# Altium integrated library Atmel Memory EEPROM.IntLib: 165 symbols (part 3 of 5)
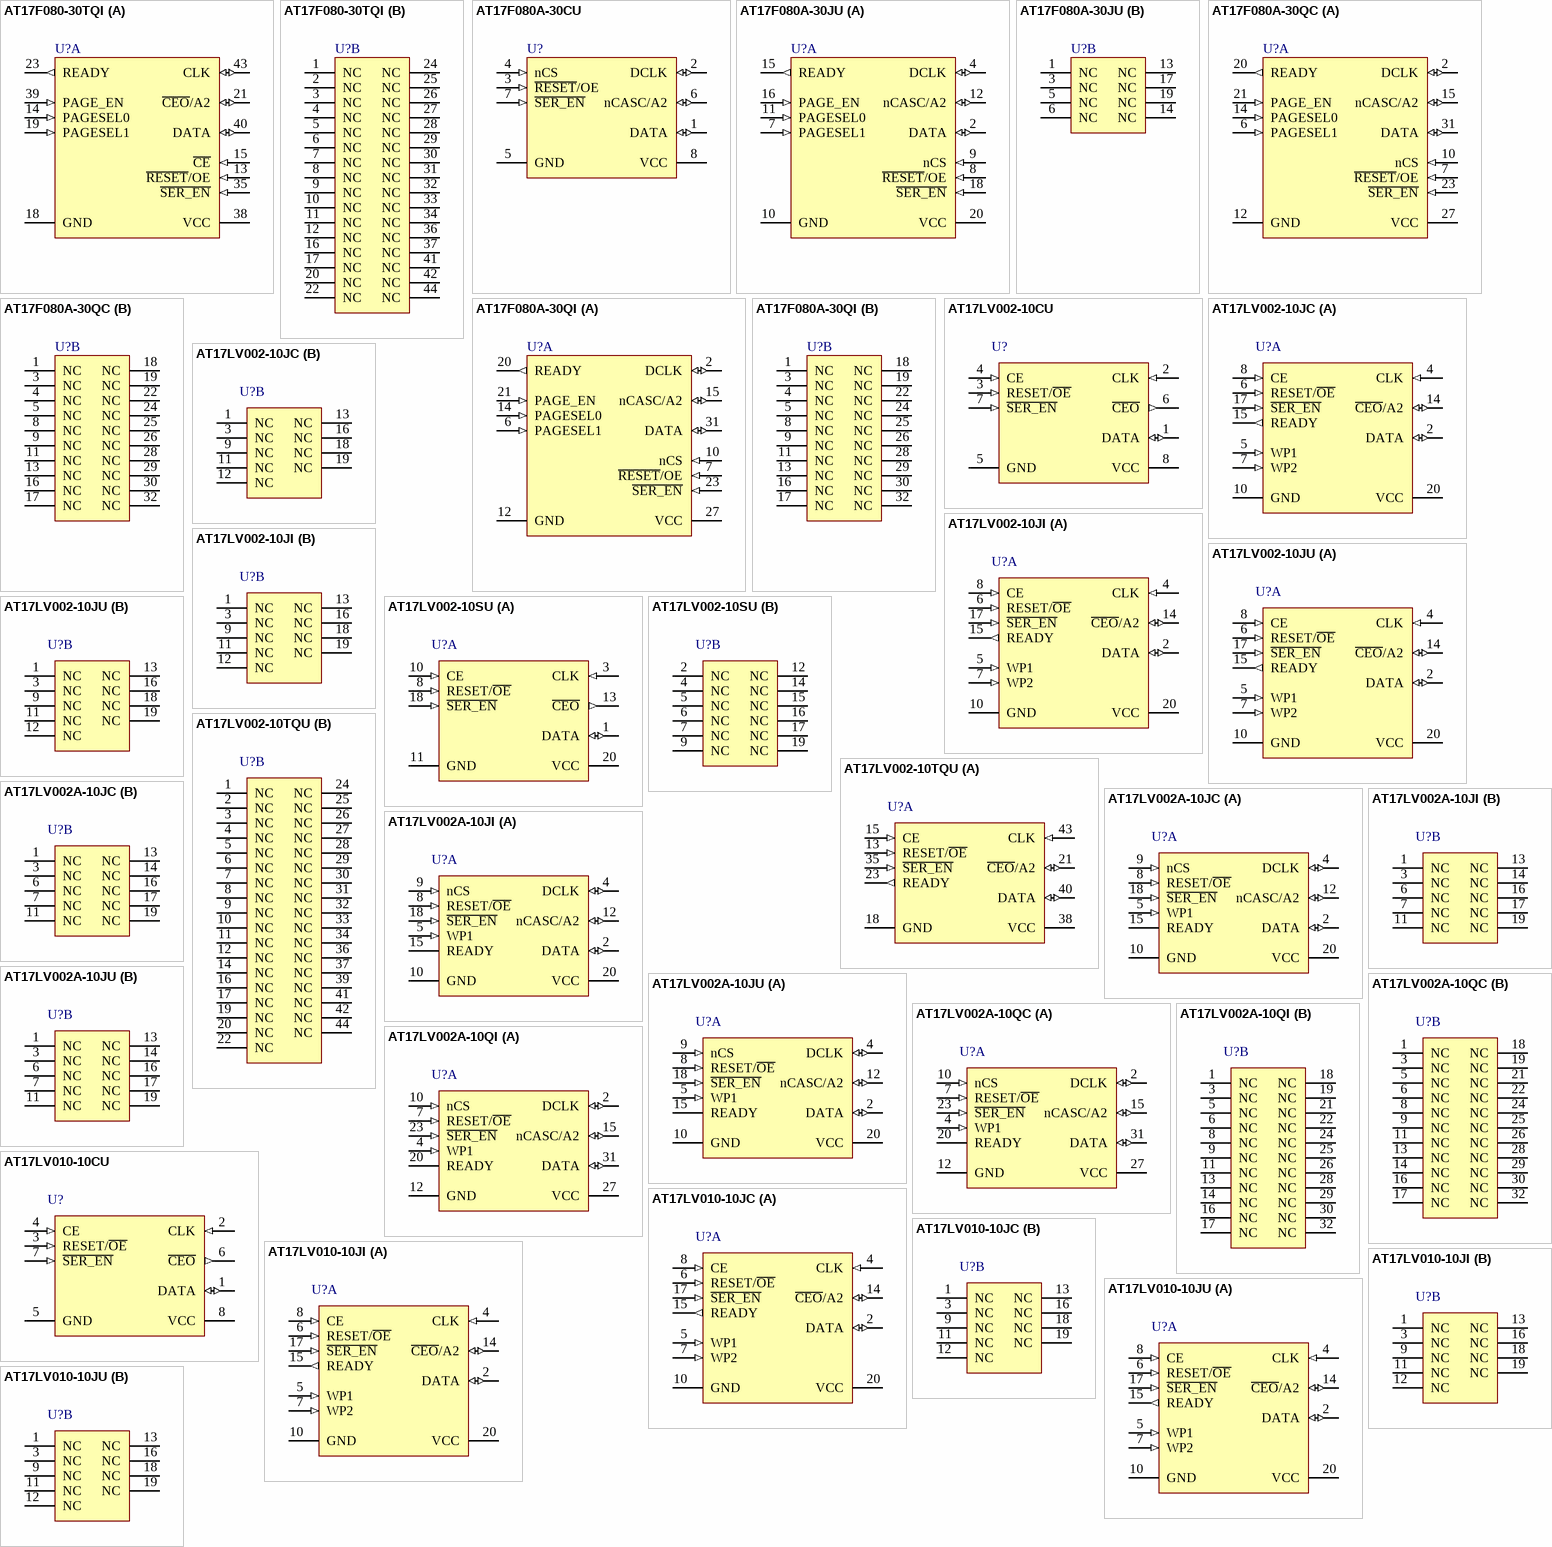
[diagram p10: symbols AT17F080-30TQI to AT17LV010-10JU]

## AT17LV010-10CU
designator U?
FPGA Configuration EEPROM Memory, 1-MBit Memory, 8-Pin LAP, Industrial Grade (-40°C to 85°C), Pb-Free; Published: 20-Sep-2010; DatasheetVersion: revI, Feb-2008; PackageVersion: revD, Feb-2008; PackageReference: 8CN4; Publisher: Altium Limited; PackageDescription: 8-Lead 6 x 6 x 1.04mm Body, 1.27mm Pitch Leadless Array Package (LAP); Supplier 1: Digi-Key; Supplier Part Number 1: AT17LV010-10CU-ND; Supplier 2: Mouser; Supplier Part Number 2: 556-AT17LV01010CU; ComponentLink1Description: Manufacturer Link; ComponentLink1URL: http://www.atmel.com/products/Config; ComponentLink2Description: AT17LV010 Datasheet; ComponentLink2URL: http://www.atmel.com/dyn/resources/prod_documents/doc2321.pdf; ComponentLink3Description: Atmel.com Home; ComponentLink3URL: http://www.atmel.com
footprint 8CN4 (SON, 8-Leads, Body 6x6 mm, Pitch 1.27mm)
pins: 1 DATA (io), 2 CLK (in), 3 RESET/~{OE} (in), 4 CE (in), 5 GND (power), 6 ~{CEO} (out), 7 ~{SER_EN} (in), 8 VCC (power)

## AT17LV010-10JC
designator U?
FPGA Configuration EEPROM Memory, 1-MBit Memory, 20-Pin PLCC, Commercial Grade (0°C to 70°C); Published: 17-Jul-2002; LatestRevisionDate: 13-Apr-2006; LatestRevisionNote: IPC-7351 Footprint Added.; DatasheetVersion: revI, Feb-2008; PackageVersion: Aug-1999; PackageReference: 20J; Publisher: Altium Limited; PackageDescription: 20-Pin Leaded Chip Carrier 1.27 mm Pitch; Supplier 1: Digi-Key; Supplier Part Number 1: AT17LV010-10JC-ND; Supplier 2: Mouser; Supplier Part Number 2: 556-AT17LV01010JC; Code_JEDEC: MS-018-AA; Code_IPC: PLCC-20; ComponentLink1Description: Manufacturer Link; ComponentLink1URL: http://www.atmel.com/products/Config; ComponentLink2Description: AT17LV010 Datasheet; ComponentLink2URL: http://www.atmel.com/dyn/resources/prod_documents/doc2321.pdf; ComponentLink3Description: Atmel.com Home; ComponentLink3URL: http://www.atmel.com
footprint 20J_N (Leaded Chip Carrier, 20-Leads, Body 9x9mm, Pitch 1.27mm, IPC Medium Density)
footprint 20J_L (Leaded Chip Carrier, 20-Leads, Body 9x9mm, Pitch 1.27mm, IPC High Density)
footprint 20J_M (Leaded Chip Carrier, 20-Leads, Body 9x9mm, Pitch 1.27mm, IPC Low Density)
part A pins: 2 DATA (io), 4 CLK (in), 5 WP1 (in), 6 RESET/~{OE} (in), 7 WP2 (in), 8 CE (in), 10 GND (power), 14 ~{CEO}/A2 (io), 15 READY (out), 17 ~{SER_EN} (in), 20 VCC (power)
part B pins: 1 NC, 3 NC, 9 NC, 11 NC, 12 NC, 13 NC, 16 NC, 18 NC, 19 NC

## AT17LV010-10JI
designator U?
FPGA Configuration EEPROM Memory, 1-MBit Memory, 20-Pin PLCC, Industrial Grade (-40°C to 85°C); Published: 17-Jul-2002; LatestRevisionDate: 13-Apr-2006; LatestRevisionNote: IPC-7351 Footprint Added.; DatasheetVersion: revI, Feb-2008; PackageVersion: Aug-1999; PackageReference: 20J; Publisher: Altium Limited; PackageDescription: 20-Pin Leaded Chip Carrier 1.27 mm Pitch; Supplier 1: Digi-Key; Supplier Part Number 1: AT17LV010-10JI-ND; Supplier 2: Mouser; Supplier Part Number 2: 556-AT17LV010-10JI; Code_JEDEC: MS-018-AA; Code_IPC: PLCC-20; ComponentLink1Description: Manufacturer Link; ComponentLink1URL: http://www.atmel.com/products/Config; ComponentLink2Description: AT17LV010 Datasheet; ComponentLink2URL: http://www.atmel.com/dyn/resources/prod_documents/doc2321.pdf; ComponentLink3Description: Atmel.com Home; ComponentLink3URL: http://www.atmel.com
footprint 20J_N (Leaded Chip Carrier, 20-Leads, Body 9x9mm, Pitch 1.27mm, IPC Medium Density)
footprint 20J_L (Leaded Chip Carrier, 20-Leads, Body 9x9mm, Pitch 1.27mm, IPC High Density)
footprint 20J_M (Leaded Chip Carrier, 20-Leads, Body 9x9mm, Pitch 1.27mm, IPC Low Density)
part A pins: 2 DATA (io), 4 CLK (in), 5 WP1 (in), 6 RESET/~{OE} (in), 7 WP2 (in), 8 CE (in), 10 GND (power), 14 ~{CEO}/A2 (io), 15 READY (out), 17 ~{SER_EN} (in), 20 VCC (power)
part B pins: 1 NC, 3 NC, 9 NC, 11 NC, 12 NC, 13 NC, 16 NC, 18 NC, 19 NC

## AT17LV010-10JU
designator U?
FPGA Configuration EEPROM Memory, 1-MBit Memory, 20-Pin PLCC, Industrial Grade (-40°C to 85°C), Pb-Free; Published: 20-Sep-2010; DatasheetVersion: revI, Feb-2008; PackageVersion: Aug-1999; PackageReference: 20J; Publisher: Altium Limited; PackageDescription: 20-Pin Leaded Chip Carrier 1.27 mm Pitch; Supplier 1: Digi-Key; Supplier Part Number 1: AT17LV010-10JU-ND; Supplier 2: Mouser; Supplier Part Number 2: 556-AT17LV01010JU; Code_JEDEC: MS-018-AA; Code_IPC: PLCC-20; ComponentLink1Description: Manufacturer Link; ComponentLink1URL: http://www.atmel.com/products/Config; ComponentLink2Description: AT17LV010 Datasheet; ComponentLink2URL: http://www.atmel.com/dyn/resources/prod_documents/doc2321.pdf; ComponentLink3Description: Atmel.com Home; ComponentLink3URL: http://www.atmel.com
footprint 20J_N (Leaded Chip Carrier, 20-Leads, Body 9x9mm, Pitch 1.27mm, IPC Medium Density)
footprint 20J_L (Leaded Chip Carrier, 20-Leads, Body 9x9mm, Pitch 1.27mm, IPC High Density)
footprint 20J_M (Leaded Chip Carrier, 20-Leads, Body 9x9mm, Pitch 1.27mm, IPC Low Density)
part A pins: 2 DATA (io), 4 CLK (in), 5 WP1 (in), 6 RESET/~{OE} (in), 7 WP2 (in), 8 CE (in), 10 GND (power), 14 ~{CEO}/A2 (io), 15 READY (out), 17 ~{SER_EN} (in), 20 VCC (power)
part B pins: 1 NC, 3 NC, 9 NC, 11 NC, 12 NC, 13 NC, 16 NC, 18 NC, 19 NC

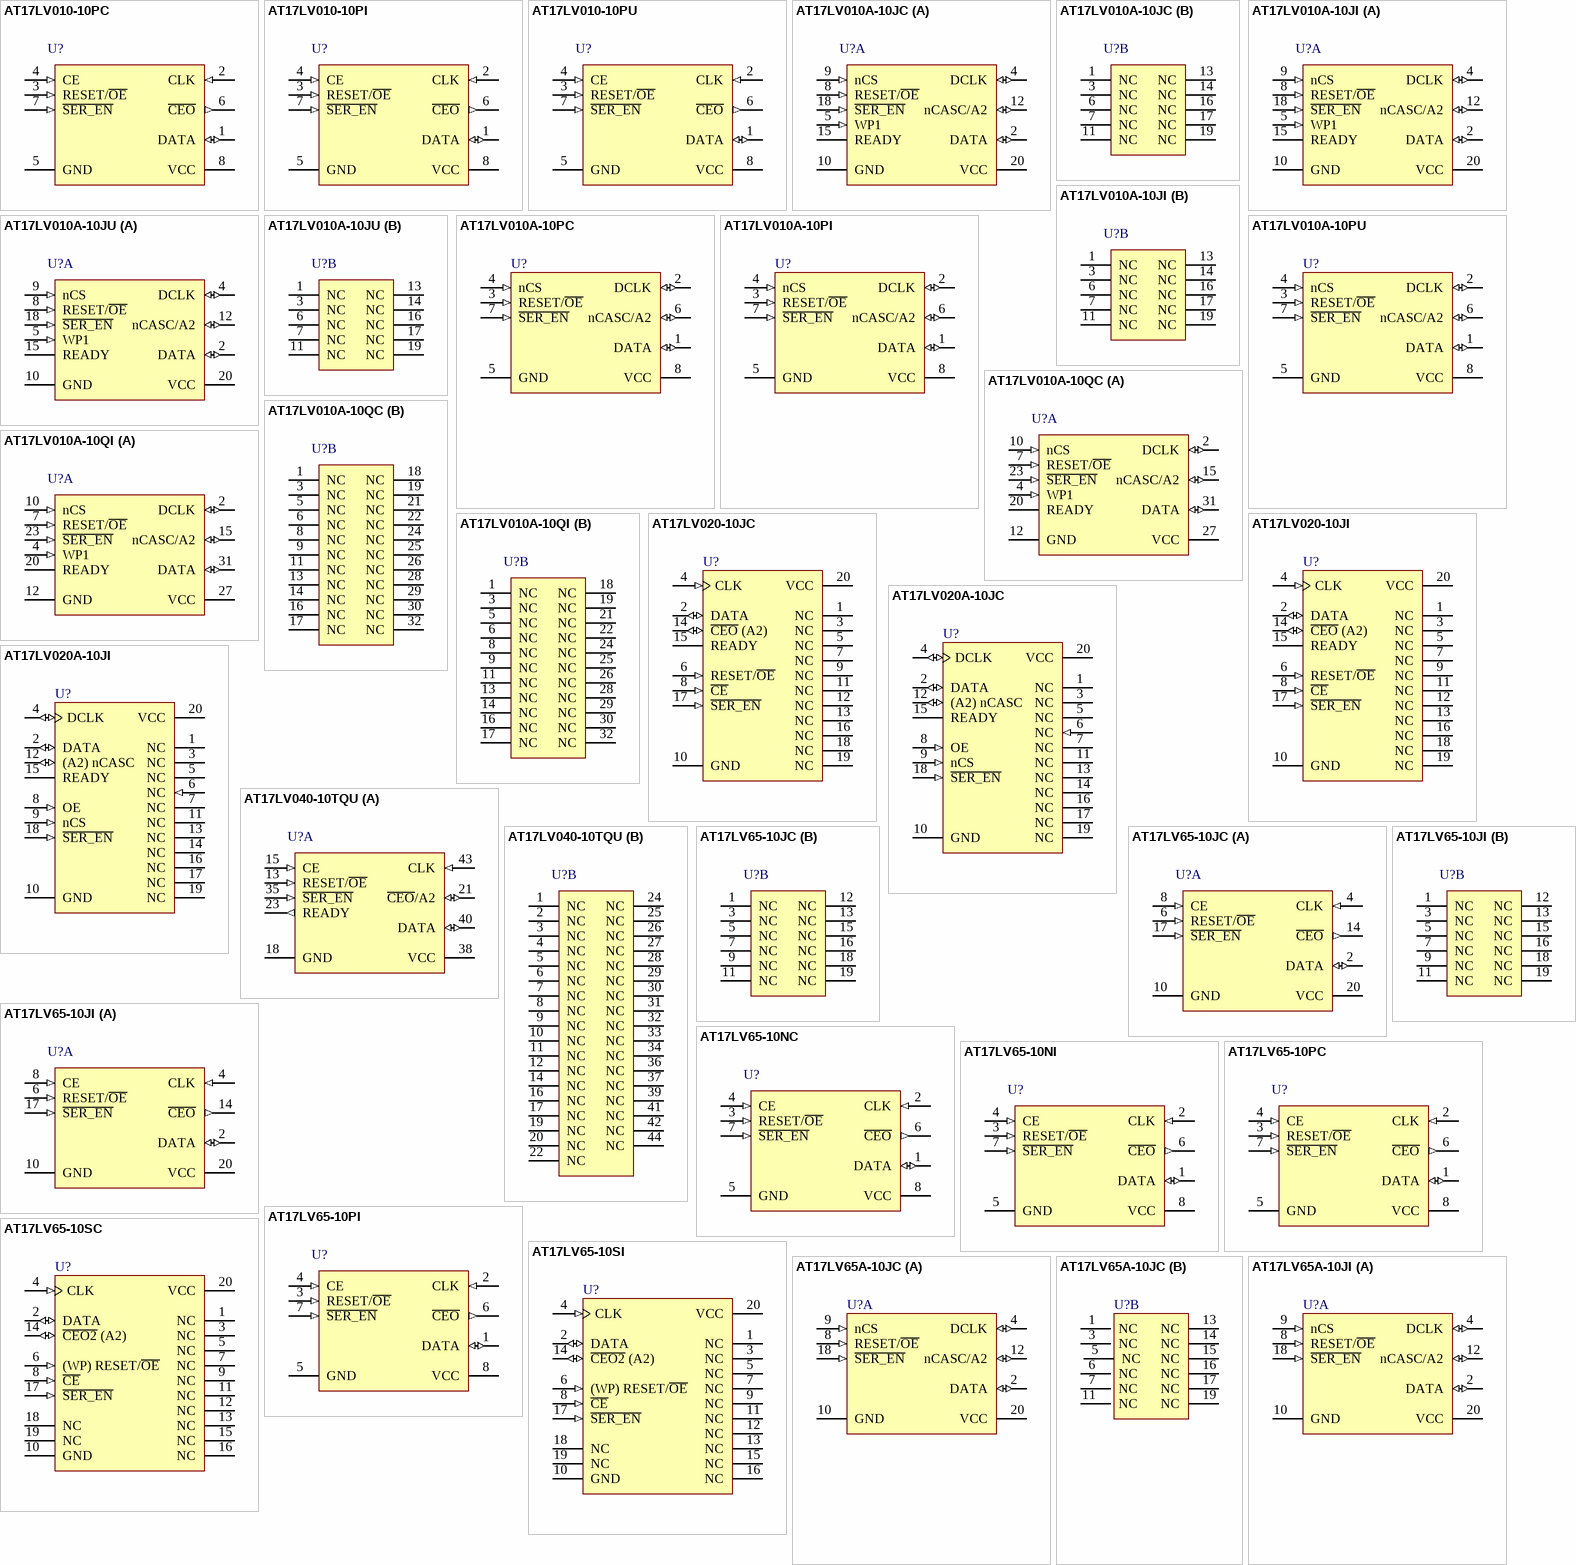
[diagram p4: symbols AT17LV010-10PC to AT17LV65A-10JI]

## AT17LV010-10PC
designator U?
FPGA Configuration EEPROM Memory, 1-MBit Memory, 8-Pin PDIP, Commercial Grade (0°C to 70°C); Published: 20-Sep-2010; DatasheetVersion: revI, Feb-2008; PackageVersion: revB, Jan-2002; PackageReference: 8P3; Publisher: Altium Limited; PackageDescription: 8-Lead, 0.300" Wide Body, Plastic Dual In-Line Package (PDIP); Supplier 1: Digi-Key; Supplier Part Number 1: AT17LV010-10PC-ND; Supplier 2: Mouser; Supplier Part Number 2: 556-AT17LV010-10PC; Code_JEDEC: MS-001-BA; ComponentLink1Description: Manufacturer Link; ComponentLink1URL: http://www.atmel.com/products/Config; ComponentLink2Description: AT17LV010 Datasheet; ComponentLink2URL: http://www.atmel.com/dyn/resources/prod_documents/doc2321.pdf; ComponentLink3Description: Atmel.com Home; ComponentLink3URL: http://www.atmel.com
footprint 8P3 (DIP, 8-Leads, Row Spacing 7.62mm, Pitch 2.54mm, Body 9.59x6.61mm)
pins: 1 DATA (io), 2 CLK (in), 3 RESET/~{OE} (in), 4 CE (in), 5 GND (power), 6 ~{CEO} (out), 7 ~{SER_EN} (in), 8 VCC (power)

## AT17LV010-10PI
designator U?
FPGA Configuration EEPROM Memory, 1-MBit Memory, 8-Pin PDIP, Industrial Grade (-40°C to 85°C); Published: 20-Sep-2010; DatasheetVersion: revI, Feb-2008; PackageVersion: revB, Jan-2002; PackageReference: 8P3; Publisher: Altium Limited; PackageDescription: 8-Lead, 0.300" Wide Body, Plastic Dual In-Line Package (PDIP); Supplier 1: Digi-Key; Supplier Part Number 1: AT17LV010-10PI-ND; Supplier 2: Mouser; Supplier Part Number 2: 556-AT17LV010-10PI; Code_JEDEC: MS-001-BA; ComponentLink1Description: Manufacturer Link; ComponentLink1URL: http://www.atmel.com/products/Config; ComponentLink2Description: AT17LV010 Datasheet; ComponentLink2URL: http://www.atmel.com/dyn/resources/prod_documents/doc2321.pdf; ComponentLink3Description: Atmel.com Home; ComponentLink3URL: http://www.atmel.com
footprint 8P3 (DIP, 8-Leads, Row Spacing 7.62mm, Pitch 2.54mm, Body 9.59x6.61mm)
pins: 1 DATA (io), 2 CLK (in), 3 RESET/~{OE} (in), 4 CE (in), 5 GND (power), 6 ~{CEO} (out), 7 ~{SER_EN} (in), 8 VCC (power)

## AT17LV010-10PU
designator U?
FPGA Configuration EEPROM Memory, 1-MBit Memory, 8-Pin PDIP, Industrial Grade (-40°C to 85°C), Pb-Free; Published: 20-Sep-2010; DatasheetVersion: revI, Feb-2008; PackageVersion: revB, Jan-2002; PackageReference: 8P3; Publisher: Altium Limited; PackageDescription: 8-Lead, 0.300" Wide Body, Plastic Dual In-Line Package (PDIP); Supplier 1: Digi-Key; Supplier Part Number 1: AT17LV010-10PU-ND; Supplier 2: Mouser; Supplier Part Number 2: 556-AT17LV01010PU; Code_JEDEC: MS-001-BA; ComponentLink1Description: Manufacturer Link; ComponentLink1URL: http://www.atmel.com/products/Config; ComponentLink2Description: AT17LV010 Datasheet; ComponentLink2URL: http://www.atmel.com/dyn/resources/prod_documents/doc2321.pdf; ComponentLink3Description: Atmel.com Home; ComponentLink3URL: http://www.atmel.com
footprint 8P3 (DIP, 8-Leads, Row Spacing 7.62mm, Pitch 2.54mm, Body 9.59x6.61mm)
pins: 1 DATA (io), 2 CLK (in), 3 RESET/~{OE} (in), 4 CE (in), 5 GND (power), 6 ~{CEO} (out), 7 ~{SER_EN} (in), 8 VCC (power)

## AT17LV010A-10JC
designator U?
FPGA Configuration EEPROM Memory, 1-MBit Memory, 20-Pin PLCC, Commercial Grade (0°C to 70°C); Published: 17-Jul-2002; LatestRevisionDate: 13-Apr-2006; LatestRevisionNote: IPC-7351 Footprint Added.; DatasheetVersion: revG, Mar-2006; PackageVersion: Aug-1999; PackageReference: 20J; Publisher: Altium Limited; PackageDescription: 20-Pin Leaded Chip Carrier 1.27 mm Pitch; Supplier 1: Digi-Key; Supplier Part Number 1: AT17LV010A-10JC-ND; Supplier 2: Mouser; Supplier Part Number 2: 556-AT17LV010A-10JC; Code_JEDEC: MS-018-AA; Code_IPC: PLCC-20; ComponentLink1Description: Manufacturer Link; ComponentLink1URL: http://www.atmel.com/products/Config; ComponentLink2Description: AT17LV010A Datasheet; ComponentLink2URL: http://www.atmel.com/dyn/resources/prod_documents/doc2322.pdf; ComponentLink3Description: Atmel.com Home; ComponentLink3URL: http://www.atmel.com
footprint 20J_N (Leaded Chip Carrier, 20-Leads, Body 9x9mm, Pitch 1.27mm, IPC Medium Density)
footprint 20J_L (Leaded Chip Carrier, 20-Leads, Body 9x9mm, Pitch 1.27mm, IPC High Density)
footprint 20J_M (Leaded Chip Carrier, 20-Leads, Body 9x9mm, Pitch 1.27mm, IPC Low Density)
part A pins: 2 DATA (io), 4 DCLK (io), 5 WP1 (in), 8 RESET/~{OE} (in), 9 nCS (in), 10 GND (power), 12 nCASC/A2 (io), 15 READY (oc), 18 ~{SER_EN} (in), 20 VCC (power)
part B pins: 1 NC, 3 NC, 6 NC, 7 NC, 11 NC, 13 NC, 14 NC, 16 NC, 17 NC, 19 NC

## AT17LV010A-10JI
designator U?
FPGA Configuration EEPROM Memory, 1-MBit Memory, 20-Pin PLCC, Industrial Grade (-40°C to 85°C); Published: 17-Jul-2002; LatestRevisionDate: 13-Apr-2006; LatestRevisionNote: IPC-7351 Footprint Added.; DatasheetVersion: revG, Mar-2006; PackageVersion: Aug-1999; PackageReference: 20J; Publisher: Altium Limited; PackageDescription: 20-Pin Leaded Chip Carrier 1.27 mm Pitch; Supplier 1: Digi-Key; Supplier Part Number 1: AT17LV010A-10JI-ND; Supplier 2: Mouser; Supplier Part Number 2: 556-AT17LV010A-10JI; Code_JEDEC: MS-018-AA; Code_IPC: PLCC-20; ComponentLink1Description: Manufacturer Link; ComponentLink1URL: http://www.atmel.com/products/Config; ComponentLink2Description: AT17LV010A Datasheet; ComponentLink2URL: http://www.atmel.com/dyn/resources/prod_documents/doc2322.pdf; ComponentLink3Description: Atmel.com Home; ComponentLink3URL: http://www.atmel.com
footprint 20J_N (Leaded Chip Carrier, 20-Leads, Body 9x9mm, Pitch 1.27mm, IPC Medium Density)
footprint 20J_L (Leaded Chip Carrier, 20-Leads, Body 9x9mm, Pitch 1.27mm, IPC High Density)
footprint 20J_M (Leaded Chip Carrier, 20-Leads, Body 9x9mm, Pitch 1.27mm, IPC Low Density)
part A pins: 2 DATA (io), 4 DCLK (io), 5 WP1 (in), 8 RESET/~{OE} (in), 9 nCS (in), 10 GND (power), 12 nCASC/A2 (io), 15 READY (oc), 18 ~{SER_EN} (in), 20 VCC (power)
part B pins: 1 NC, 3 NC, 6 NC, 7 NC, 11 NC, 13 NC, 14 NC, 16 NC, 17 NC, 19 NC

## AT17LV010A-10JU
designator U?
FPGA Configuration EEPROM Memory, 1-MBit Memory, 20-Pin PLCC, Industrial Grade (-40°C to 85°C), Pb-Free; Published: 20-Sep-2010; DatasheetVersion: revG, Mar-2006; PackageVersion: Aug-1999; PackageReference: 20J; Publisher: Altium Limited; PackageDescription: 20-Pin Leaded Chip Carrier 1.27 mm Pitch; Supplier 1: Digi-Key; Supplier Part Number 1: AT17LV010A-10JU-ND; Supplier 2: Mouser; Supplier Part Number 2: 556-AT17LV010A10JU; Code_JEDEC: MS-018-AA; Code_IPC: PLCC-20; ComponentLink1Description: Manufacturer Link; ComponentLink1URL: http://www.atmel.com/products/Config; ComponentLink2Description: AT17LV010A Datasheet; ComponentLink2URL: http://www.atmel.com/dyn/resources/prod_documents/doc2322.pdf; ComponentLink3Description: Atmel.com Home; ComponentLink3URL: http://www.atmel.com
footprint 20J_N (Leaded Chip Carrier, 20-Leads, Body 9x9mm, Pitch 1.27mm, IPC Medium Density)
footprint 20J_L (Leaded Chip Carrier, 20-Leads, Body 9x9mm, Pitch 1.27mm, IPC High Density)
footprint 20J_M (Leaded Chip Carrier, 20-Leads, Body 9x9mm, Pitch 1.27mm, IPC Low Density)
part A pins: 2 DATA (io), 4 DCLK (io), 5 WP1 (in), 8 RESET/~{OE} (in), 9 nCS (in), 10 GND (power), 12 nCASC/A2 (io), 15 READY (oc), 18 ~{SER_EN} (in), 20 VCC (power)
part B pins: 1 NC, 3 NC, 6 NC, 7 NC, 11 NC, 13 NC, 14 NC, 16 NC, 17 NC, 19 NC

## AT17LV010A-10PC
designator U?
FPGA Configuration EEPROM Memory, 1-MBit Memory, 8-Pin PDIP, Commercial Grade (0°C to 70°C); Published: 20-Sep-2010; DatasheetVersion: revG, Mar-2006; PackageVersion: revB, Jan-2002; PackageReference: 8P3; Publisher: Altium Limited; PackageDescription: 8-Lead, 0.300" Wide Body, Plastic Dual In-Line Package (PDIP); Supplier 1: Digi-Key; Supplier Part Number 1: AT17LV010A-10PC-ND; Supplier 2: Mouser; Supplier Part Number 2: 556-AT17LV010A-10PC; Code_JEDEC: MS-001-BA; ComponentLink1Description: Manufacturer Link; ComponentLink1URL: http://www.atmel.com/products/Config; ComponentLink2Description: AT17LV010A Datasheet; ComponentLink2URL: http://www.atmel.com/dyn/resources/prod_documents/doc2322.pdf; ComponentLink3Description: Atmel.com Home; ComponentLink3URL: http://www.atmel.com
footprint 8P3 (DIP, 8-Leads, Row Spacing 7.62mm, Pitch 2.54mm, Body 9.59x6.61mm)
pins: 1 DATA (io), 2 DCLK (io), 3 RESET/~{OE} (in), 4 nCS (in), 5 GND (power), 6 nCASC/A2 (io), 7 ~{SER_EN} (in), 8 VCC (power)

## AT17LV010A-10PI
designator U?
FPGA Configuration EEPROM Memory, 1-MBit Memory, 8-Pin PDIP, Industrial Grade (-40°C to 85°C); Published: 20-Sep-2010; DatasheetVersion: revG, Mar-2006; PackageVersion: revB, Jan-2002; PackageReference: 8P3; Publisher: Altium Limited; PackageDescription: 8-Lead, 0.300" Wide Body, Plastic Dual In-Line Package (PDIP); Supplier 1: Digi-Key; Supplier Part Number 1: AT17LV010A-10PI-ND; Supplier 2: Mouser; Supplier Part Number 2: 556-AT17LV010A-10PI; Code_JEDEC: MS-001-BA; ComponentLink1Description: Manufacturer Link; ComponentLink1URL: http://www.atmel.com/products/Config; ComponentLink2Description: AT17LV010A Datasheet; ComponentLink2URL: http://www.atmel.com/dyn/resources/prod_documents/doc2322.pdf; ComponentLink3Description: Atmel.com Home; ComponentLink3URL: http://www.atmel.com
footprint 8P3 (DIP, 8-Leads, Row Spacing 7.62mm, Pitch 2.54mm, Body 9.59x6.61mm)
pins: 1 DATA (io), 2 DCLK (io), 3 RESET/~{OE} (in), 4 nCS (in), 5 GND (power), 6 nCASC/A2 (io), 7 ~{SER_EN} (in), 8 VCC (power)

## AT17LV010A-10PU
designator U?
FPGA Configuration EEPROM Memory, 1-MBit Memory, 8-Pin PDIP, Industrial Grade (-40°C to 85°C), Pb-Free; Published: 20-Sep-2010; DatasheetVersion: revG, Mar-2006; PackageVersion: revB, Jan-2002; PackageReference: 8P3; Publisher: Altium Limited; PackageDescription: 8-Lead, 0.300" Wide Body, Plastic Dual In-Line Package (PDIP); Supplier 1: Digi-Key; Supplier Part Number 1: AT17LV010A-10PU-ND; Supplier 2: Mouser; Supplier Part Number 2: 556-AT17LV010A10PU; Code_JEDEC: MS-001-BA; ComponentLink1Description: Manufacturer Link; ComponentLink1URL: http://www.atmel.com/products/Config; ComponentLink2Description: AT17LV010A Datasheet; ComponentLink2URL: http://www.atmel.com/dyn/resources/prod_documents/doc2322.pdf; ComponentLink3Description: Atmel.com Home; ComponentLink3URL: http://www.atmel.com
footprint 8P3 (DIP, 8-Leads, Row Spacing 7.62mm, Pitch 2.54mm, Body 9.59x6.61mm)
pins: 1 DATA (io), 2 DCLK (io), 3 RESET/~{OE} (in), 4 nCS (in), 5 GND (power), 6 nCASC/A2 (io), 7 ~{SER_EN} (in), 8 VCC (power)

## AT17LV010A-10QC
designator U?
FPGA Configuration EEPROM Memory, 1-MBit Memory, 32-Pin TQFP, Commercial Grade (0°C to 70°C); Published: 20-Sep-2010; DatasheetVersion: revG, Mar-2006; PackageVersion: revB, Oct-2001; PackageReference: 32A; Publisher: Altium Limited; PackageDescription: 32-Lead, 7x7x1.0 mm Body, 0.8mm Lead Pitch, Thin Profile Plastic Quad Flat Package (TQFP); Supplier 1: Digi-Key; Supplier Part Number 1: AT17LV010A-10QC-ND; Supplier 2: Mouser; Supplier Part Number 2: 556-AT17LV010A-10QC; Code_JEDEC: MS-026-ABA; ComponentLink1Description: Manufacturer Link; ComponentLink1URL: http://www.atmel.com/products/Config; ComponentLink2Description: AT17LV010A Datasheet; ComponentLink2URL: http://www.atmel.com/dyn/resources/prod_documents/doc2322.pdf; ComponentLink3Description: Atmel.com Home; ComponentLink3URL: http://www.atmel.com
footprint 32A_N (Thin QFP, 32-Leads, Body 7x7mm, Pitch 0.8mm, IPC Medium Density)
footprint 32A_L (Thin QFP, 32-Leads, Body 7x7mm, Pitch 0.8mm, IPC High Density)
footprint 32A_M (Thin QFP, 32-Leads, Body 7x7mm, Pitch 0.8mm, IPC Low Density)
part A pins: 2 DCLK (io), 4 WP1 (in), 7 RESET/~{OE} (in), 10 nCS (in), 12 GND (power), 15 nCASC/A2 (io), 20 READY (oc), 23 ~{SER_EN} (in), 27 VCC (power), 31 DATA (io)
part B pins: 1 NC, 3 NC, 5 NC, 6 NC, 8 NC, 9 NC, 11 NC, 13 NC, 14 NC, 16 NC, 17 NC, 18 NC, 19 NC, 21 NC, 22 NC, 24 NC, 25 NC, 26 NC, 28 NC, 29 NC, 30 NC, 32 NC

## AT17LV010A-10QI
designator U?
FPGA Configuration EEPROM Memory, 1-MBit Memory, 32-Pin TQFP, Industrial Grade (-40°C to 85°C); Published: 20-Sep-2010; DatasheetVersion: revG, Mar-2006; PackageVersion: revB, Oct-2001; PackageReference: 32A; Publisher: Altium Limited; PackageDescription: 32-Lead, 7x7x1.0 mm Body, 0.8mm Lead Pitch, Thin Profile Plastic Quad Flat Package (TQFP); Supplier 1: Digi-Key; Supplier Part Number 1: AT17LV010A-10QI-ND; Supplier 2: Mouser; Supplier Part Number 2: 556-AT17LV010A-10QI; Code_JEDEC: MS-026-ABA; ComponentLink1Description: Manufacturer Link; ComponentLink1URL: http://www.atmel.com/products/Config; ComponentLink2Description: AT17LV010A Datasheet; ComponentLink2URL: http://www.atmel.com/dyn/resources/prod_documents/doc2322.pdf; ComponentLink3Description: Atmel.com Home; ComponentLink3URL: http://www.atmel.com
footprint 32A_N (Thin QFP, 32-Leads, Body 7x7mm, Pitch 0.8mm, IPC Medium Density)
footprint 32A_L (Thin QFP, 32-Leads, Body 7x7mm, Pitch 0.8mm, IPC High Density)
footprint 32A_M (Thin QFP, 32-Leads, Body 7x7mm, Pitch 0.8mm, IPC Low Density)
part A pins: 2 DCLK (io), 4 WP1 (in), 7 RESET/~{OE} (in), 10 nCS (in), 12 GND (power), 15 nCASC/A2 (io), 20 READY (oc), 23 ~{SER_EN} (in), 27 VCC (power), 31 DATA (io)
part B pins: 1 NC, 3 NC, 5 NC, 6 NC, 8 NC, 9 NC, 11 NC, 13 NC, 14 NC, 16 NC, 17 NC, 18 NC, 19 NC, 21 NC, 22 NC, 24 NC, 25 NC, 26 NC, 28 NC, 29 NC, 30 NC, 32 NC

## AT17LV020-10JC
designator U?
FPGA Configuration EEPROM 2M Memory; ComponentAvailability: Check status with vendor; Published: 17-Jul-2002; LatestRevisionDate: 13-Apr-2006; LatestRevisionNote: IPC-7351 Footprint Added.; DatasheetVersion: Rev. 1239B-05/99; PackageVersion: Aug-1999; PackageReference: 20J; Publisher: Altium Limited; PackageDescription: 20-Pin Leaded Chip Carrier 1.27 mm Pitch; Supplier 1: Digi-Key; Supplier Part Number 1: AT17LV020-10JC-ND; Supplier 2: Mouser; Supplier Part Number 2: 556-AT17LV020-10JC; Code_JEDEC: MS-018-AA; Code_IPC: PLCC-20; ComponentLink1Description: Manufacturer Link; ComponentLink1URL: http://www.atmel.com/products/Config; ComponentLink2Description: Atmel.com Home; ComponentLink2URL: http://www.atmel.com
footprint 20J_N (Leaded Chip Carrier, 20-Leads, Body 9x9mm, Pitch 1.27mm, IPC Medium Density)
footprint 20J_L (Leaded Chip Carrier, 20-Leads, Body 9x9mm, Pitch 1.27mm, IPC High Density)
footprint 20J_M (Leaded Chip Carrier, 20-Leads, Body 9x9mm, Pitch 1.27mm, IPC Low Density)
pins: 1 NC, 2 DATA (io), 3 NC, 4 CLK (in), 5 NC, 6 RESET/~{OE} (in), 7 NC, 8 ~{CE} (in), 9 NC, 10 GND (power), 11 NC, 12 NC, 13 NC, 14 ~{CEO} (A2) (io), 15 READY (oc), 16 NC, 17 ~{SER_EN} (in), 18 NC, 19 NC, 20 VCC (power)

## AT17LV020-10JI
designator U?
FPGA Configuration EEPROM 2M Memory; ComponentAvailability: Check status with vendor; Published: 17-Jul-2002; LatestRevisionDate: 13-Apr-2006; LatestRevisionNote: IPC-7351 Footprint Added.; DatasheetVersion: Rev. 1239B-05/99; PackageVersion: Aug-1999; PackageReference: 20J; Publisher: Altium Limited; PackageDescription: 20-Pin Leaded Chip Carrier 1.27 mm Pitch; Supplier 1: Digi-Key; Supplier Part Number 1: AT17LV020-10JI-ND; Code_JEDEC: MS-018-AA; Code_IPC: PLCC-20; ComponentLink1Description: Manufacturer Link; ComponentLink1URL: http://www.atmel.com/products/Config; ComponentLink2Description: Atmel.com Home; ComponentLink2URL: http://www.atmel.com
footprint 20J_N (Leaded Chip Carrier, 20-Leads, Body 9x9mm, Pitch 1.27mm, IPC Medium Density)
footprint 20J_L (Leaded Chip Carrier, 20-Leads, Body 9x9mm, Pitch 1.27mm, IPC High Density)
footprint 20J_M (Leaded Chip Carrier, 20-Leads, Body 9x9mm, Pitch 1.27mm, IPC Low Density)
pins: 1 NC, 2 DATA (io), 3 NC, 4 CLK (in), 5 NC, 6 RESET/~{OE} (in), 7 NC, 8 ~{CE} (in), 9 NC, 10 GND (power), 11 NC, 12 NC, 13 NC, 14 ~{CEO} (A2) (io), 15 READY (oc), 16 NC, 17 ~{SER_EN} (in), 18 NC, 19 NC, 20 VCC (power)

## AT17LV020A-10JC
designator U?
FPGA Configuration EEPROM 2M Memory; ComponentAvailability: Check status with vendor; Published: 17-Jul-2002; LatestRevisionDate: 13-Apr-2006; LatestRevisionNote: IPC-7351 Footprint Added.; DatasheetVersion: Rev. 1270A-05/00; PackageVersion: Aug-1999; PackageReference: 20J; Publisher: Altium Limited; PackageDescription: 20-Pin Leaded Chip Carrier 1.27 mm Pitch; Supplier 1: Digi-Key; Supplier Part Number 1: AT17LV020A-10JC-ND; Supplier 2: Mouser; Supplier Part Number 2: 556-AT17LV020A-10JC; Code_JEDEC: MS-018-AA; Code_IPC: PLCC-20; ComponentLink1Description: Manufacturer Link; ComponentLink1URL: http://www.atmel.com/products/Config; ComponentLink2Description: Atmel.com Home; ComponentLink2URL: http://www.atmel.com
footprint 20J_N (Leaded Chip Carrier, 20-Leads, Body 9x9mm, Pitch 1.27mm, IPC Medium Density)
footprint 20J_L (Leaded Chip Carrier, 20-Leads, Body 9x9mm, Pitch 1.27mm, IPC High Density)
footprint 20J_M (Leaded Chip Carrier, 20-Leads, Body 9x9mm, Pitch 1.27mm, IPC Low Density)
pins: 1 NC, 2 DATA (io), 3 NC, 4 DCLK (io), 5 NC, 6 NC (in), 7 NC, 8 OE (in), 9 nCS (in), 10 GND (power), 11 NC, 12 (A2) nCASC (io), 13 NC, 14 NC, 15 READY (oc), 16 NC, 17 NC, 18 ~{SER_EN} (in), 19 NC, 20 VCC (power)

## AT17LV020A-10JI
designator U?
FPGA Configuration EEPROM 2M Memory; ComponentAvailability: Check status with vendor; Published: 17-Jul-2002; LatestRevisionDate: 13-Apr-2006; LatestRevisionNote: IPC-7351 Footprint Added.; DatasheetVersion: Rev. 1270A-05/00; PackageVersion: Aug-1999; PackageReference: 20J; Publisher: Altium Limited; PackageDescription: 20-Pin Leaded Chip Carrier 1.27 mm Pitch; Supplier 1: Digi-Key; Supplier Part Number 1: AT17LV020A-10JI-ND; Supplier 2: Mouser; Supplier Part Number 2: 556-AT17LV020A-10JI; Code_JEDEC: MS-018-AA; Code_IPC: PLCC-20; ComponentLink1Description: Manufacturer Link; ComponentLink1URL: http://www.atmel.com/products/Config; ComponentLink2Description: Atmel.com Home; ComponentLink2URL: http://www.atmel.com
footprint 20J_N (Leaded Chip Carrier, 20-Leads, Body 9x9mm, Pitch 1.27mm, IPC Medium Density)
footprint 20J_L (Leaded Chip Carrier, 20-Leads, Body 9x9mm, Pitch 1.27mm, IPC High Density)
footprint 20J_M (Leaded Chip Carrier, 20-Leads, Body 9x9mm, Pitch 1.27mm, IPC Low Density)
pins: 1 NC, 2 DATA (io), 3 NC, 4 DCLK (io), 5 NC, 6 NC (in), 7 NC, 8 OE (in), 9 nCS (in), 10 GND (power), 11 NC, 12 (A2) nCASC (io), 13 NC, 14 NC, 15 READY (oc), 16 NC, 17 NC, 18 ~{SER_EN} (in), 19 NC, 20 VCC (power)

## AT17LV040-10TQU
designator U?
FPGA Configuration EEPROM Memory, 4-MBit Memory, 44-Pin TQFP, Industrial Grade (-40°C to 85°C), Pb-Free; Published: 20-Sep-2010; DatasheetVersion: revI, Feb-2008; PackageVersion: rev.B, Oct-2001; PackageReference: 44A; Publisher: Altium Limited; PackageDescription: 44-Pin Plastic Thin Profile Quad Flat Pack, 10 x 10 x 1.0 mm Body, 0.8 mm Pitch (TQFP); Supplier 1: Digi-Key; Supplier Part Number 1: AT17LV040-10TQU-ND; Supplier 2: Mouser; Supplier Part Number 2: 556-AT17LV040-10TQU; ComponentLink1Description: Manufacturer Link; ComponentLink1URL: http://www.atmel.com/products/Config; ComponentLink2Description: AT17LV040 Datasheet; ComponentLink2URL: http://www.atmel.com/dyn/resources/prod_documents/doc2321.pdf; ComponentLink3Description: Atmel.com Home; ComponentLink3URL: http://www.atmel.com
footprint 44A_N (Thin QFP, 44-Leads, Body 10x10mm, Pitch 0.8mm, IPC Medium Density)
footprint 44A_L (Thin QFP, 44-Leads, Body 10x10mm, Pitch 0.8mm, IPC High Density)
footprint 44A_M (Thin QFP, 44-Leads, Body 10x10mm, Pitch 0.8mm, IPC Low Density)
part A pins: 13 RESET/~{OE} (in), 15 CE (in), 18 GND (power), 21 ~{CEO}/A2 (io), 23 READY (out), 35 ~{SER_EN} (in), 38 VCC (power), 40 DATA (io), 43 CLK (in)
part B pins: 1 NC, 2 NC, 3 NC, 4 NC, 5 NC, 6 NC, 7 NC, 8 NC, 9 NC, 10 NC, 11 NC, 12 NC, 14 NC, 16 NC, 17 NC, 19 NC, 20 NC, 22 NC, 24 NC, 25 NC, 26 NC, 27 NC, 28 NC, 29 NC, 30 NC, 31 NC, 32 NC, 33 NC, 34 NC, 36 NC, 37 NC, 39 NC, 41 NC, 42 NC, 44 NC

## AT17LV65-10JC
designator U?
FPGA Configuration EEPROM Memory, 64-KBit Memory, 20-Pin PLCC, Commercial Grade (0°C to 70°C); Published: 17-Jul-2002; LatestRevisionDate: 13-Apr-2006; LatestRevisionNote: IPC-7351 Footprint Added.; DatasheetVersion: revI, Feb-2008; PackageVersion: Aug-1999; PackageReference: 20J; Publisher: Altium Limited; PackageDescription: 20-Pin Leaded Chip Carrier 1.27 mm Pitch; Supplier 1: Digi-Key; Supplier Part Number 1: AT17LV65-10JC-ND; Supplier 2: Mouser; Supplier Part Number 2: 556-AT17LV65-10JC; Code_JEDEC: MS-018-AA; Code_IPC: PLCC-20; ComponentLink1Description: Manufacturer Link; ComponentLink1URL: http://www.atmel.com/products/Config; ComponentLink2Description: AT17F040 Datasheet; ComponentLink2URL: http://www.atmel.com/dyn/resources/prod_documents/doc2321.pdf; ComponentLink3Description: Atmel.com Home; ComponentLink3URL: http://www.atmel.com
footprint 20J_N (Leaded Chip Carrier, 20-Leads, Body 9x9mm, Pitch 1.27mm, IPC Medium Density)
footprint 20J_L (Leaded Chip Carrier, 20-Leads, Body 9x9mm, Pitch 1.27mm, IPC High Density)
footprint 20J_M (Leaded Chip Carrier, 20-Leads, Body 9x9mm, Pitch 1.27mm, IPC Low Density)
part A pins: 2 DATA (io), 4 CLK (in), 6 RESET/~{OE} (in), 8 CE (in), 10 GND (power), 14 ~{CEO} (out), 17 ~{SER_EN} (in), 20 VCC (power)
part B pins: 1 NC, 3 NC, 5 NC, 7 NC, 9 NC, 11 NC, 12 NC, 13 NC, 15 NC, 16 NC, 18 NC, 19 NC

## AT17LV65-10JI
designator U?
FPGA Configuration EEPROM Memory, 64-KBit Memory, 20-Pin PLCC, Industrial Grade (-40°C to 85°C); Published: 17-Jul-2002; LatestRevisionDate: 13-Apr-2006; LatestRevisionNote: IPC-7351 Footprint Added.; DatasheetVersion: revI, Feb-2008; PackageVersion: Aug-1999; PackageReference: 20J; Publisher: Altium Limited; PackageDescription: 20-Pin Leaded Chip Carrier 1.27 mm Pitch; Supplier 1: Digi-Key; Supplier Part Number 1: AT17LV65-10JI-ND; Supplier 2: Mouser; Supplier Part Number 2: 556-AT17LV6510JI; Code_JEDEC: MS-018-AA; Code_IPC: PLCC-20; ComponentLink1Description: Manufacturer Link; ComponentLink1URL: http://www.atmel.com/products/Config; ComponentLink2Description: AT17F040 Datasheet; ComponentLink2URL: http://www.atmel.com/dyn/resources/prod_documents/doc2321.pdf; ComponentLink3Description: Atmel.com Home; ComponentLink3URL: http://www.atmel.com
footprint 20J_N (Leaded Chip Carrier, 20-Leads, Body 9x9mm, Pitch 1.27mm, IPC Medium Density)
footprint 20J_L (Leaded Chip Carrier, 20-Leads, Body 9x9mm, Pitch 1.27mm, IPC High Density)
footprint 20J_M (Leaded Chip Carrier, 20-Leads, Body 9x9mm, Pitch 1.27mm, IPC Low Density)
part A pins: 2 DATA (io), 4 CLK (in), 6 RESET/~{OE} (in), 8 CE (in), 10 GND (power), 14 ~{CEO} (out), 17 ~{SER_EN} (in), 20 VCC (power)
part B pins: 1 NC, 3 NC, 5 NC, 7 NC, 9 NC, 11 NC, 12 NC, 13 NC, 15 NC, 16 NC, 18 NC, 19 NC

## AT17LV65-10NC
designator U?
FPGA Configuration EEPROM Memory, 64-KBit Memory, 8-Pin SOIC, Commercial Grade (0°C to 70°C); Published: 17-Jul-2002; LatestRevisionDate: 13-Apr-2006; LatestRevisionNote: IPC-7351 Footprint Added.; DatasheetVersion: revI, Feb-2008; PackageVersion: revC, Mar-2005; PackageReference: 8S1; Publisher: Altium Limited; PackageDescription: 8-Lead (0.150" Wide Body), Plastic Gull Wing Small Outline (JEDEC SOIC); Supplier 1: Digi-Key; Supplier Part Number 1: AT17LV65-10NC-ND; Supplier 2: Mouser; Supplier Part Number 2: 556-AT17LV65-10NC; Code_JEDEC: MS-012-AA; Code_IPC: SOIC127P600-8; ComponentLink1Description: Manufacturer Link; ComponentLink1URL: http://www.atmel.com/products/Config; ComponentLink2Description: AT17F040 Datasheet; ComponentLink2URL: http://www.atmel.com/dyn/resources/prod_documents/doc2321.pdf; ComponentLink3Description: Atmel.com Home; ComponentLink3URL: http://www.atmel.com
footprint 8S1_N (SOIC, 8-Leads, Body 4.9x3.9mm, Pitch 1.27mm, IPC Medium Density)
footprint 8S1_L (SOIC, 8-Leads, Body 4.9x3.9mm, Pitch 1.27mm, IPC High Density)
footprint 8S1_M (SOIC, 8-Leads, Body 4.9x3.9mm, Pitch 1.27mm, IPC Low Density)
pins: 1 DATA (io), 2 CLK (in), 3 RESET/~{OE} (in), 4 CE (in), 5 GND (power), 6 ~{CEO} (out), 7 ~{SER_EN} (in), 8 VCC (power)

## AT17LV65-10NI
designator U?
FPGA Configuration EEPROM Memory, 64-KBit Memory, 8-Pin SOIC, Industrial Grade (-40°C to 85°C); Published: 17-Jul-2002; LatestRevisionDate: 13-Apr-2006; LatestRevisionNote: IPC-7351 Footprint Added.; DatasheetVersion: revI, Feb-2008; PackageVersion: revC, Mar-2005; PackageReference: 8S1; Publisher: Altium Limited; PackageDescription: 8-Lead (0.150" Wide Body), Plastic Gull Wing Small Outline (JEDEC SOIC); Supplier 1: Digi-Key; Supplier Part Number 1: AT17LV65-10NI-ND; Supplier 2: Mouser; Supplier Part Number 2: 556-AT17LV6510NI; Code_JEDEC: MS-012-AA; Code_IPC: SOIC127P600-8; ComponentLink1Description: Manufacturer Link; ComponentLink1URL: http://www.atmel.com/products/Config; ComponentLink2Description: AT17F040 Datasheet; ComponentLink2URL: http://www.atmel.com/dyn/resources/prod_documents/doc2321.pdf; ComponentLink3Description: Atmel.com Home; ComponentLink3URL: http://www.atmel.com
footprint 8S1_N (SOIC, 8-Leads, Body 4.9x3.9mm, Pitch 1.27mm, IPC Medium Density)
footprint 8S1_L (SOIC, 8-Leads, Body 4.9x3.9mm, Pitch 1.27mm, IPC High Density)
footprint 8S1_M (SOIC, 8-Leads, Body 4.9x3.9mm, Pitch 1.27mm, IPC Low Density)
pins: 1 DATA (io), 2 CLK (in), 3 RESET/~{OE} (in), 4 CE (in), 5 GND (power), 6 ~{CEO} (out), 7 ~{SER_EN} (in), 8 VCC (power)

## AT17LV65-10PC
designator U?
FPGA Configuration EEPROM Memory, 64-KBit Memory, 8-Pin PDIP, Commercial Grade (0°C to 70°C); Published: 17-Jul-2002; LatestRevisionDate: 13-Apr-2006; LatestRevisionNote: IPC-7351 Footprint Added.; DatasheetVersion: revI, Feb-2008; PackageVersion: revB, Jan-2002; PackageReference: 8P3; Publisher: Altium Limited; PackageDescription: 8-Lead, 0.300" Wide Body, Plastic Dual In-Line Package (PDIP); Supplier 1: Digi-Key; Supplier Part Number 1: AT17LV65-10PC-ND; Supplier 2: Mouser; Supplier Part Number 2: 556-AT17LV6510PC; Code_JEDEC: MS-001-BA; ComponentLink1Description: Manufacturer Link; ComponentLink1URL: http://www.atmel.com/products/Config; ComponentLink2Description: AT17F040 Datasheet; ComponentLink2URL: http://www.atmel.com/dyn/resources/prod_documents/doc2321.pdf; ComponentLink3Description: Atmel.com Home; ComponentLink3URL: http://www.atmel.com
footprint 8P3 (DIP, 8-Leads, Row Spacing 7.62mm, Pitch 2.54mm, Body 9.59x6.61mm)
pins: 1 DATA (io), 2 CLK (in), 3 RESET/~{OE} (in), 4 CE (in), 5 GND (power), 6 ~{CEO} (out), 7 ~{SER_EN} (in), 8 VCC (power)

## AT17LV65-10PI
designator U?
FPGA Configuration EEPROM Memory, 64-KBit Memory, 8-Pin PDIP, Industrial Grade (-40°C to 85°C); Published: 17-Jul-2002; LatestRevisionDate: 13-Apr-2006; LatestRevisionNote: IPC-7351 Footprint Added.; DatasheetVersion: revI, Feb-2008; PackageVersion: revB, Jan-2002; PackageReference: 8P3; Publisher: Altium Limited; PackageDescription: 8-Lead, 0.300" Wide Body, Plastic Dual In-Line Package (PDIP); Supplier 1: Digi-Key; Supplier Part Number 1: AT17LV65-10PI-ND; Supplier 2: Mouser; Supplier Part Number 2: 556-AT17LV65-10PI; Code_JEDEC: MS-001-BA; ComponentLink1Description: Manufacturer Link; ComponentLink1URL: http://www.atmel.com/products/Config; ComponentLink2Description: AT17LV65 Datasheet; ComponentLink2URL: http://www.atmel.com/dyn/resources/prod_documents/doc2321.pdf; ComponentLink3Description: Atmel.com Home; ComponentLink3URL: http://www.atmel.com
footprint 8P3 (DIP, 8-Leads, Row Spacing 7.62mm, Pitch 2.54mm, Body 9.59x6.61mm)
pins: 1 DATA (io), 2 CLK (in), 3 RESET/~{OE} (in), 4 CE (in), 5 GND (power), 6 ~{CEO} (out), 7 ~{SER_EN} (in), 8 VCC (power)

## AT17LV65-10SC
designator U?
FPGA Configuration EEPROM 64K Memory; ComponentAvailability: Check status with vendor; Published: 17-Jul-2002; LatestRevisionDate: 13-Apr-2006; LatestRevisionNote: IPC-7351 Footprint Added.; DatasheetVersion: Rev. 1636B-05/00; PackageVersion: revA, Jan-2002; PackageReference: 20S; Publisher: Altium Limited; PackageDescription: 20-lead, 0.300" Wide Body, Plastic Gull Wing Small Outline Package (SOIC); Supplier 1: Digi-Key; Supplier Part Number 1: AT17LV65-10SC-ND; Supplier 2: Mouser; Supplier Part Number 2: 556-AT17LV65-10SC; Code_JEDEC: MS-013-AC; Code_IPC: SOIC127P1030-20; ComponentLink1Description: Manufacturer Link; ComponentLink1URL: http://www.atmel.com/products/Config; ComponentLink2Description: AT17LV65 Datasheet; ComponentLink2URL: http://www.atmel.com/dyn/resources/prod_documents/doc2321.pdf; ComponentLink3Description: Atmel.com Home; ComponentLink3URL: http://www.atmel.com
footprint 20S_N (SOIC, 20-Leads, Body 12.8x7.5mm, Pitch 1.27mm, IPC Medium Density)
footprint 20S_L (SOIC, 20-Leads, Body 12.8x7.5mm, Pitch 1.27mm, IPC High Density)
footprint 20S_M (SOIC, 20-Leads, Body 12.8x7.5mm, Pitch 1.27mm, IPC Low Density)
pins: 1 NC, 2 DATA (io), 3 NC, 4 CLK (in), 5 NC, 6 (WP) RESET/~{OE} (in), 7 NC, 8 ~{CE} (in), 9 NC, 10 GND (power), 11 NC, 12 NC, 13 NC, 14 ~{CEO2} (A2) (io), 15 NC, 16 NC, 17 ~{SER_EN} (in), 18 NC, 19 NC, 20 VCC (power)

## AT17LV65-10SI
designator U?
FPGA Configuration EEPROM 64K Memory; ComponentAvailability: Check status with vendor; Published: 17-Jul-2002; LatestRevisionDate: 13-Apr-2006; LatestRevisionNote: IPC-7351 Footprint Added.; DatasheetVersion: Rev. 1636B-05/00; PackageVersion: revA, Jan-2002; PackageReference: 20S; Publisher: Altium Limited; PackageDescription: 20-lead, 0.300" Wide Body, Plastic Gull Wing Small Outline Package (SOIC); Supplier 1: Digi-Key; Supplier Part Number 1: AT17LV65-10SI-ND; Supplier 2: Mouser; Supplier Part Number 2: 556-AT17LV65-10SI; Code_JEDEC: MS-013-AC; Code_IPC: SOIC127P1030-20; ComponentLink1Description: Manufacturer Link; ComponentLink1URL: http://www.atmel.com/products/Config; ComponentLink2Description: AT17LV65 Datasheet; ComponentLink2URL: http://www.atmel.com/dyn/resources/prod_documents/doc2321.pdf; ComponentLink3Description: Atmel.com Home; ComponentLink3URL: http://www.atmel.com
footprint 20S_N (SOIC, 20-Leads, Body 12.8x7.5mm, Pitch 1.27mm, IPC Medium Density)
footprint 20S_L (SOIC, 20-Leads, Body 12.8x7.5mm, Pitch 1.27mm, IPC High Density)
footprint 20S_M (SOIC, 20-Leads, Body 12.8x7.5mm, Pitch 1.27mm, IPC Low Density)
pins: 1 NC, 2 DATA (io), 3 NC, 4 CLK (in), 5 NC, 6 (WP) RESET/~{OE} (in), 7 NC, 8 ~{CE} (in), 9 NC, 10 GND (power), 11 NC, 12 NC, 13 NC, 14 ~{CEO2} (A2) (io), 15 NC, 16 NC, 17 ~{SER_EN} (in), 18 NC, 19 NC, 20 VCC (power)

## AT17LV65A-10JC
designator U?
FPGA Configuration EEPROM Memory, 64-KBit Memory, 20-Pin PLCC, Commercial Grade (0°C to 70°C); Published: 17-Jul-2002; LatestRevisionDate: 13-Apr-2006; LatestRevisionNote: IPC-7351 Footprint Added.; DatasheetVersion: revG, Mar-2006; PackageVersion: Aug-1999; PackageReference: 20J; Publisher: Altium Limited; PackageDescription: 20-Pin Leaded Chip Carrier 1.27 mm Pitch; Supplier 1: Digi-Key; Supplier Part Number 1: AT17LV65A-10JC-ND; Supplier 2: Mouser; Supplier Part Number 2: 556-AT17LV65A-10JC; Code_JEDEC: MS-018-AA; Code_IPC: PLCC-20; ComponentLink1Description: Manufacturer Link; ComponentLink1URL: http://www.atmel.com/products/Config; ComponentLink2Description: AT17LV65A Datasheet; ComponentLink2URL: http://www.atmel.com/dyn/resources/prod_documents/doc2321.pdf; ComponentLink3Description: Atmel.com Home; ComponentLink3URL: http://www.atmel.com
footprint 20J_N (Leaded Chip Carrier, 20-Leads, Body 9x9mm, Pitch 1.27mm, IPC Medium Density)
footprint 20J_L (Leaded Chip Carrier, 20-Leads, Body 9x9mm, Pitch 1.27mm, IPC High Density)
footprint 20J_M (Leaded Chip Carrier, 20-Leads, Body 9x9mm, Pitch 1.27mm, IPC Low Density)
part A pins: 2 DATA (io), 4 DCLK (io), 8 RESET/~{OE} (in), 9 nCS (in), 10 GND (power), 12 nCASC/A2 (io), 18 ~{SER_EN} (in), 20 VCC (power)
part B pins: 1 NC, 3 NC, 5 NC, 6 NC, 7 NC, 11 NC, 13 NC, 14 NC, 15 NC, 16 NC, 17 NC, 19 NC

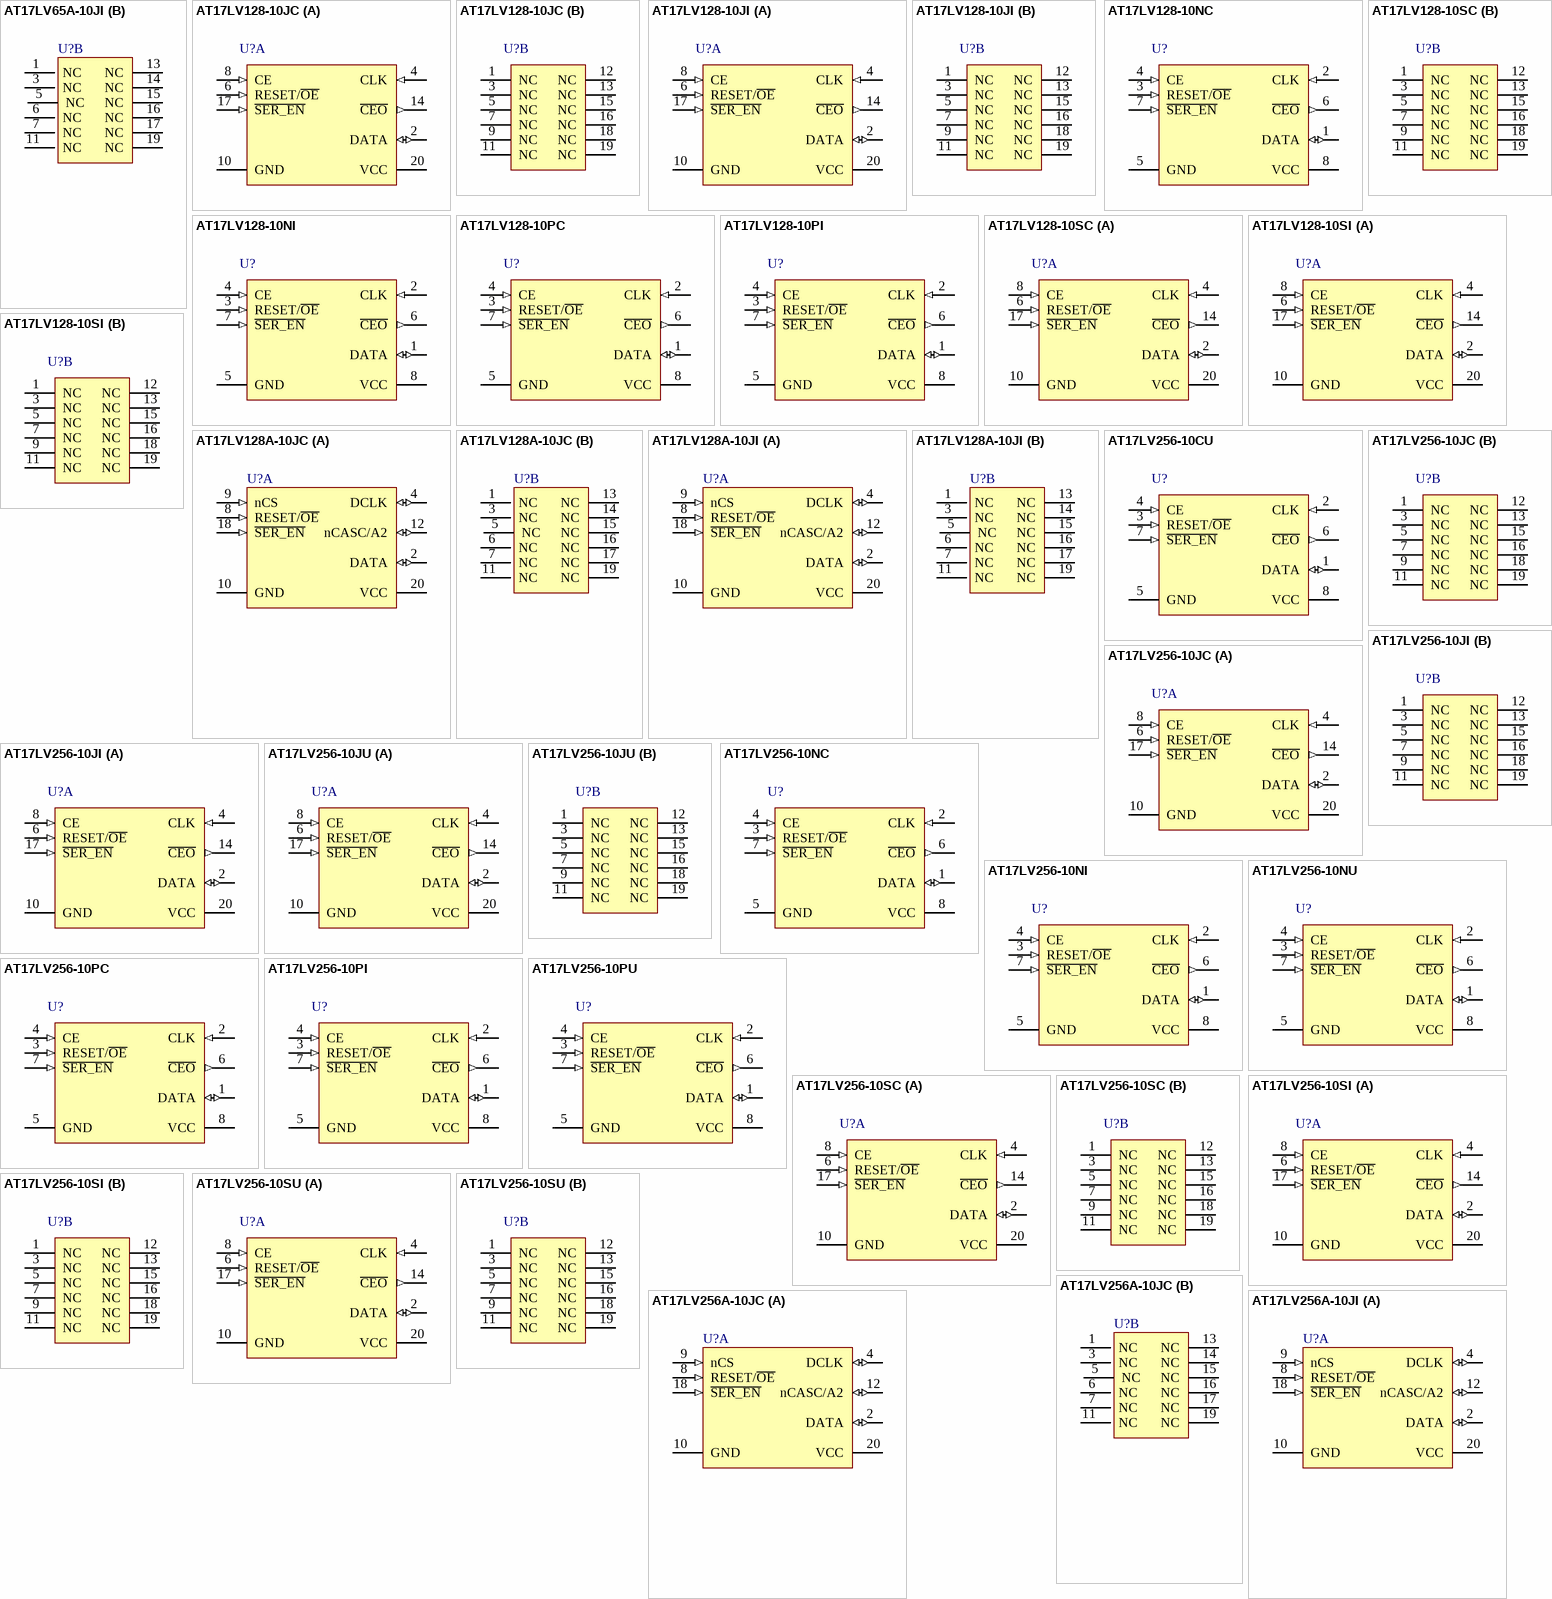
[diagram p5: symbols AT17LV65A-10JI to AT17LV256A-10JI]

## AT17LV65A-10JI
designator U?
FPGA Configuration EEPROM Memory, 64-KBit Memory, 20-Pin PLCC, Industrial Grade (-40°C to 85°C); Published: 17-Jul-2002; LatestRevisionDate: 13-Apr-2006; LatestRevisionNote: IPC-7351 Footprint Added.; DatasheetVersion: revG, Mar-2006; PackageVersion: Aug-1999; PackageReference: 20J; Publisher: Altium Limited; PackageDescription: 20-Pin Leaded Chip Carrier 1.27 mm Pitch; Supplier 1: Digi-Key; Supplier Part Number 1: AT17LV65A-10JI-ND; Supplier 2: Mouser; Supplier Part Number 2: 556-AT17LV65A-10JI; Code_JEDEC: MS-018-AA; Code_IPC: PLCC-20; ComponentLink1Description: Manufacturer Link; ComponentLink1URL: http://www.atmel.com/products/Config; ComponentLink2Description: AT17LV65A Datasheet; ComponentLink2URL: http://www.atmel.com/dyn/resources/prod_documents/doc2321.pdf; ComponentLink3Description: Atmel.com Home; ComponentLink3URL: http://www.atmel.com
footprint 20J_N (Leaded Chip Carrier, 20-Leads, Body 9x9mm, Pitch 1.27mm, IPC Medium Density)
footprint 20J_L (Leaded Chip Carrier, 20-Leads, Body 9x9mm, Pitch 1.27mm, IPC High Density)
footprint 20J_M (Leaded Chip Carrier, 20-Leads, Body 9x9mm, Pitch 1.27mm, IPC Low Density)
part A pins: 2 DATA (io), 4 DCLK (io), 8 RESET/~{OE} (in), 9 nCS (in), 10 GND (power), 12 nCASC/A2 (io), 18 ~{SER_EN} (in), 20 VCC (power)
part B pins: 1 NC, 3 NC, 5 NC, 6 NC, 7 NC, 11 NC, 13 NC, 14 NC, 15 NC, 16 NC, 17 NC, 19 NC

## AT17LV128-10JC
designator U?
FPGA Configuration EEPROM Memory, 128-KBit Memory, 20-Pin PLCC, Commercial Grade (0°C to 70°C); Published: 17-Jul-2002; LatestRevisionDate: 13-Apr-2006; LatestRevisionNote: IPC-7351 Footprint Added.; DatasheetVersion: revI, Feb-2008; PackageVersion: Aug-1999; PackageReference: 20J; Publisher: Altium Limited; PackageDescription: 20-Pin Leaded Chip Carrier 1.27 mm Pitch; Supplier 1: Digi-Key; Supplier Part Number 1: AT17LV128-10JC-ND; Supplier 2: Mouser; Supplier Part Number 2: 556-AT17LV12810JC; Code_JEDEC: MS-018-AA; Code_IPC: PLCC-20; ComponentLink1Description: Manufacturer Link; ComponentLink1URL: http://www.atmel.com/products/Config; ComponentLink2Description: AT17LV128 Datasheet; ComponentLink2URL: http://www.atmel.com/dyn/resources/prod_documents/doc2321.pdf; ComponentLink3Description: Atmel.com Home; ComponentLink3URL: http://www.atmel.com
footprint 20J_N (Leaded Chip Carrier, 20-Leads, Body 9x9mm, Pitch 1.27mm, IPC Medium Density)
footprint 20J_L (Leaded Chip Carrier, 20-Leads, Body 9x9mm, Pitch 1.27mm, IPC High Density)
footprint 20J_M (Leaded Chip Carrier, 20-Leads, Body 9x9mm, Pitch 1.27mm, IPC Low Density)
part A pins: 2 DATA (io), 4 CLK (in), 6 RESET/~{OE} (in), 8 CE (in), 10 GND (power), 14 ~{CEO} (out), 17 ~{SER_EN} (in), 20 VCC (power)
part B pins: 1 NC, 3 NC, 5 NC, 7 NC, 9 NC, 11 NC, 12 NC, 13 NC, 15 NC, 16 NC, 18 NC, 19 NC

## AT17LV128-10JI
designator U?
FPGA Configuration EEPROM Memory, 128-KBit Memory, 20-Pin PLCC, Industrial Grade (-40°C to 85°C); Published: 17-Jul-2002; LatestRevisionDate: 13-Apr-2006; LatestRevisionNote: IPC-7351 Footprint Added.; DatasheetVersion: revI, Feb-2008; PackageVersion: Aug-1999; PackageReference: 20J; Publisher: Altium Limited; PackageDescription: 20-Pin Leaded Chip Carrier 1.27 mm Pitch; Supplier 1: Digi-Key; Supplier Part Number 1: AT17LV128-10JI-ND; Supplier 2: Mouser; Supplier Part Number 2: 556-AT17LV128-10JI; Code_JEDEC: MS-018-AA; Code_IPC: PLCC-20; ComponentLink1Description: Manufacturer Link; ComponentLink1URL: http://www.atmel.com/products/Config; ComponentLink2Description: AT17LV128 Datasheet; ComponentLink2URL: http://www.atmel.com/dyn/resources/prod_documents/doc2321.pdf; ComponentLink3Description: Atmel.com Home; ComponentLink3URL: http://www.atmel.com
footprint 20J_N (Leaded Chip Carrier, 20-Leads, Body 9x9mm, Pitch 1.27mm, IPC Medium Density)
footprint 20J_L (Leaded Chip Carrier, 20-Leads, Body 9x9mm, Pitch 1.27mm, IPC High Density)
footprint 20J_M (Leaded Chip Carrier, 20-Leads, Body 9x9mm, Pitch 1.27mm, IPC Low Density)
part A pins: 2 DATA (io), 4 CLK (in), 6 RESET/~{OE} (in), 8 CE (in), 10 GND (power), 14 ~{CEO} (out), 17 ~{SER_EN} (in), 20 VCC (power)
part B pins: 1 NC, 3 NC, 5 NC, 7 NC, 9 NC, 11 NC, 12 NC, 13 NC, 15 NC, 16 NC, 18 NC, 19 NC

## AT17LV128-10NC
designator U?
FPGA Configuration EEPROM Memory, 128-KBit Memory, 8-Pin SOIC, Commercial Grade (0°C to 70°C); Published: 17-Jul-2002; LatestRevisionDate: 13-Apr-2006; LatestRevisionNote: IPC-7351 Footprint Added.; DatasheetVersion: revI, Feb-2008; PackageVersion: revC, Mar-2005; PackageReference: 8S1; Publisher: Altium Limited; PackageDescription: 8-Lead (0.150" Wide Body), Plastic Gull Wing Small Outline (JEDEC SOIC); Supplier 1: Digi-Key; Supplier Part Number 1: AT17LV128-10NC-ND; Supplier 2: Mouser; Supplier Part Number 2: 556-AT17LV12810NC; Code_JEDEC: MS-012-AA; Code_IPC: SOIC127P600-8; ComponentLink1Description: Manufacturer Link; ComponentLink1URL: http://www.atmel.com/products/Config; ComponentLink2Description: AT17LV128 Datasheet; ComponentLink2URL: http://www.atmel.com/dyn/resources/prod_documents/doc2321.pdf; ComponentLink3Description: Atmel.com Home; ComponentLink3URL: http://www.atmel.com
footprint 8S1_N (SOIC, 8-Leads, Body 4.9x3.9mm, Pitch 1.27mm, IPC Medium Density)
footprint 8S1_L (SOIC, 8-Leads, Body 4.9x3.9mm, Pitch 1.27mm, IPC High Density)
footprint 8S1_M (SOIC, 8-Leads, Body 4.9x3.9mm, Pitch 1.27mm, IPC Low Density)
pins: 1 DATA (io), 2 CLK (in), 3 RESET/~{OE} (in), 4 CE (in), 5 GND (power), 6 ~{CEO} (out), 7 ~{SER_EN} (in), 8 VCC (power)

## AT17LV128-10NI
designator U?
FPGA Configuration EEPROM Memory, 128-KBit Memory, 8-Pin SOIC, Industrial Grade (-40°C to 85°C); Published: 17-Jul-2002; LatestRevisionDate: 13-Apr-2006; LatestRevisionNote: IPC-7351 Footprint Added.; DatasheetVersion: revI, Feb-2008; PackageVersion: revC, Mar-2005; PackageReference: 8S1; Publisher: Altium Limited; PackageDescription: 8-Lead (0.150" Wide Body), Plastic Gull Wing Small Outline (JEDEC SOIC); Supplier 1: Digi-Key; Supplier Part Number 1: AT17LV128-10NI-ND; Supplier 2: Mouser; Supplier Part Number 2: 556-AT17LV128-10NI; Code_JEDEC: MS-012-AA; Code_IPC: SOIC127P600-8; ComponentLink1Description: Manufacturer Link; ComponentLink1URL: http://www.atmel.com/products/Config; ComponentLink2Description: AT17LV128 Datasheet; ComponentLink2URL: http://www.atmel.com/dyn/resources/prod_documents/doc2321.pdf; ComponentLink3Description: Atmel.com Home; ComponentLink3URL: http://www.atmel.com
footprint 8S1_N (SOIC, 8-Leads, Body 4.9x3.9mm, Pitch 1.27mm, IPC Medium Density)
footprint 8S1_L (SOIC, 8-Leads, Body 4.9x3.9mm, Pitch 1.27mm, IPC High Density)
footprint 8S1_M (SOIC, 8-Leads, Body 4.9x3.9mm, Pitch 1.27mm, IPC Low Density)
pins: 1 DATA (io), 2 CLK (in), 3 RESET/~{OE} (in), 4 CE (in), 5 GND (power), 6 ~{CEO} (out), 7 ~{SER_EN} (in), 8 VCC (power)

## AT17LV128-10PC
designator U?
FPGA Configuration EEPROM Memory, 128-KBit Memory, 8-Pin PDIP, Commercial Grade (0°C to 70°C); Published: 17-Jul-2002; LatestRevisionDate: 13-Apr-2006; LatestRevisionNote: IPC-7351 Footprint Added.; DatasheetVersion: revI, Feb-2008; PackageVersion: revB, Jan-2002; PackageReference: 8P3; Publisher: Altium Limited; PackageDescription: 8-Lead, 0.300" Wide Body, Plastic Dual In-Line Package (PDIP); Supplier 1: Digi-Key; Supplier Part Number 1: AT17LV128-10PC-ND; Supplier 2: Mouser; Supplier Part Number 2: 556-AT17LV12810PC; Code_JEDEC: MS-001-BA; ComponentLink1Description: Manufacturer Link; ComponentLink1URL: http://www.atmel.com/products/Config; ComponentLink2Description: AT17LV128 Datasheet; ComponentLink2URL: http://www.atmel.com/dyn/resources/prod_documents/doc2321.pdf; ComponentLink3Description: Atmel.com Home; ComponentLink3URL: http://www.atmel.com
footprint 8P3 (DIP, 8-Leads, Row Spacing 7.62mm, Pitch 2.54mm, Body 9.59x6.61mm)
pins: 1 DATA (io), 2 CLK (in), 3 RESET/~{OE} (in), 4 CE (in), 5 GND (power), 6 ~{CEO} (out), 7 ~{SER_EN} (in), 8 VCC (power)

## AT17LV128-10PI
designator U?
FPGA Configuration EEPROM Memory, 128-KBit Memory, 8-Pin PDIP, Industrial Grade (-40°C to 85°C); Published: 17-Jul-2002; LatestRevisionDate: 13-Apr-2006; LatestRevisionNote: IPC-7351 Footprint Added.; DatasheetVersion: revI, Feb-2008; PackageVersion: revB, Jan-2002; PackageReference: 8P3; Publisher: Altium Limited; PackageDescription: 8-Lead, 0.300" Wide Body, Plastic Dual In-Line Package (PDIP); Supplier 1: Digi-Key; Supplier Part Number 1: AT17LV128-10PI-ND; Supplier 2: Mouser; Supplier Part Number 2: 556-AT17LV128-10PI; Code_JEDEC: MS-001-BA; ComponentLink1Description: Manufacturer Link; ComponentLink1URL: http://www.atmel.com/products/Config; ComponentLink2Description: AT17LV128 Datasheet; ComponentLink2URL: http://www.atmel.com/dyn/resources/prod_documents/doc2321.pdf; ComponentLink3Description: Atmel.com Home; ComponentLink3URL: http://www.atmel.com
footprint 8P3 (DIP, 8-Leads, Row Spacing 7.62mm, Pitch 2.54mm, Body 9.59x6.61mm)
pins: 1 DATA (io), 2 CLK (in), 3 RESET/~{OE} (in), 4 CE (in), 5 GND (power), 6 ~{CEO} (out), 7 ~{SER_EN} (in), 8 VCC (power)

## AT17LV128-10SC
designator U?
FPGA Configuration EEPROM Memory, 128-KBit Memory, 20-Pin SOIC, Commercial Grade (0°C to 70°C); Published: 17-Jul-2002; LatestRevisionDate: 13-Apr-2006; LatestRevisionNote: IPC-7351 Footprint Added.; DatasheetVersion: revI, Feb-2008; PackageVersion: revB, Nov-2006; PackageReference: 20S2; Publisher: Altium Limited; PackageDescription: 20-lead, 0.300" Wide Body, Plastic Gull Wing Small Outline Package (SOIC); Supplier 1: Digi-Key; Supplier Part Number 1: AT17LV128-10SC-ND; Supplier 2: Mouser; Supplier Part Number 2: 556-AT17LV12810SC; Code_JEDEC: MS-013-AC; Code_IPC: SOIC127P1030-20; ComponentLink1Description: Manufacturer Link; ComponentLink1URL: http://www.atmel.com/products/Config; ComponentLink2Description: AT17LV128 Datasheet; ComponentLink2URL: http://www.atmel.com/dyn/resources/prod_documents/doc2321.pdf; ComponentLink3Description: Atmel.com Home; ComponentLink3URL: http://www.atmel.com
footprint 20S2_N (SOIC, 20-Leads, Body 12.8x7.5mm, Pitch 1.27mm, IPC Medium Density)
footprint 20S2_L (SOIC, 20-Leads, Body 12.8x7.5mm, Pitch 1.27mm, IPC High Density)
footprint 20S2_M (SOIC, 20-Leads, Body 12.8x7.5mm, Pitch 1.27mm, IPC Low Density)
part A pins: 2 DATA (io), 4 CLK (in), 6 RESET/~{OE} (in), 8 CE (in), 10 GND (power), 14 ~{CEO} (out), 17 ~{SER_EN} (in), 20 VCC (power)
part B pins: 1 NC, 3 NC, 5 NC, 7 NC, 9 NC, 11 NC, 12 NC, 13 NC, 15 NC, 16 NC, 18 NC, 19 NC

## AT17LV128-10SI
designator U?
FPGA Configuration EEPROM Memory, 128-KBit Memory, 20-Pin SOIC, Industrial Grade (-40°C to 85°C); Published: 17-Jul-2002; LatestRevisionDate: 13-Apr-2006; LatestRevisionNote: IPC-7351 Footprint Added.; DatasheetVersion: revI, Feb-2008; PackageVersion: revB, Nov-2006; PackageReference: 20S2; Publisher: Altium Limited; PackageDescription: 20-lead, 0.300" Wide Body, Plastic Gull Wing Small Outline Package (SOIC); Supplier 1: Digi-Key; Supplier Part Number 1: AT17LV128-10SI-ND; Supplier 2: Mouser; Supplier Part Number 2: 556-AT17LV128-10SI; Code_JEDEC: MS-013-AC; Code_IPC: SOIC127P1030-20; ComponentLink1Description: Manufacturer Link; ComponentLink1URL: http://www.atmel.com/products/Config; ComponentLink2Description: AT17LV128 Datasheet; ComponentLink2URL: http://www.atmel.com/dyn/resources/prod_documents/doc2321.pdf; ComponentLink3Description: Atmel.com Home; ComponentLink3URL: http://www.atmel.com
footprint 20S2_N (SOIC, 20-Leads, Body 12.8x7.5mm, Pitch 1.27mm, IPC Medium Density)
footprint 20S2_L (SOIC, 20-Leads, Body 12.8x7.5mm, Pitch 1.27mm, IPC High Density)
footprint 20S2_M (SOIC, 20-Leads, Body 12.8x7.5mm, Pitch 1.27mm, IPC Low Density)
part A pins: 2 DATA (io), 4 CLK (in), 6 RESET/~{OE} (in), 8 CE (in), 10 GND (power), 14 ~{CEO} (out), 17 ~{SER_EN} (in), 20 VCC (power)
part B pins: 1 NC, 3 NC, 5 NC, 7 NC, 9 NC, 11 NC, 12 NC, 13 NC, 15 NC, 16 NC, 18 NC, 19 NC

## AT17LV128A-10JC
designator U?
FPGA Configuration EEPROM Memory, 128-KBit Memory, 20-Pin PLCC, Commercial Grade (0°C to 70°C); Published: 17-Jul-2002; LatestRevisionDate: 13-Apr-2006; LatestRevisionNote: IPC-7351 Footprint Added.; DatasheetVersion: revG, Mar-2006; PackageVersion: Aug-1999; PackageReference: 20J; Publisher: Altium Limited; PackageDescription: 20-Pin Leaded Chip Carrier 1.27 mm Pitch; Supplier 1: Digi-Key; Supplier Part Number 1: AT17LV128A-10JC-ND; Code_JEDEC: MS-018-AA; Code_IPC: PLCC-20; ComponentLink1Description: Manufacturer Link; ComponentLink1URL: http://www.atmel.com/products/Config; ComponentLink2Description: AT17LV128A Datasheet; ComponentLink2URL: http://www.atmel.com/dyn/resources/prod_documents/doc2321.pdf; ComponentLink3Description: Atmel.com Home; ComponentLink3URL: http://www.atmel.com
footprint 20J_N (Leaded Chip Carrier, 20-Leads, Body 9x9mm, Pitch 1.27mm, IPC Medium Density)
footprint 20J_L (Leaded Chip Carrier, 20-Leads, Body 9x9mm, Pitch 1.27mm, IPC High Density)
footprint 20J_M (Leaded Chip Carrier, 20-Leads, Body 9x9mm, Pitch 1.27mm, IPC Low Density)
part A pins: 2 DATA (io), 4 DCLK (io), 8 RESET/~{OE} (in), 9 nCS (in), 10 GND (power), 12 nCASC/A2 (io), 18 ~{SER_EN} (in), 20 VCC (power)
part B pins: 1 NC, 3 NC, 5 NC, 6 NC, 7 NC, 11 NC, 13 NC, 14 NC, 15 NC, 16 NC, 17 NC, 19 NC